# Altium schematic symbol library 593D107X9010D2TE3.SchLib: 1 symbol
Pins are listed as number, name and electrical type; pins without a type are passive.

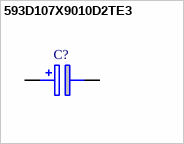
[diagram p0: symbol 593D107X9010D2TE3]

## 593D107X9010D2TE3
designator C?
Solid Tantalum Surface Mount Chip Capacitors TANTAMOUNT(TM), Molded Case, Low ESR; Manufacturer_Name: Vishay; Geometry.Height: 3.1mm; Mouser Part Number: 74-593D107X9010D2TE3; Mouser Price/Stock: https://www.mouser.co.uk/ProductDetail/Vishay-Sprague/593D107X9010D2TE3?qs=%2F2iC%2FhUAFZ91moUUgu5gAA%3D%3D; Manufacturer_Part_Number: 593D107X9010D2TE3; Datasheet Link: http://www.vishay.com/doc?40005
footprint CAPPM7343X310N
pins: 1 +, 2 -